# EAGLE library part LCD-16X2 (library 6502_lib)
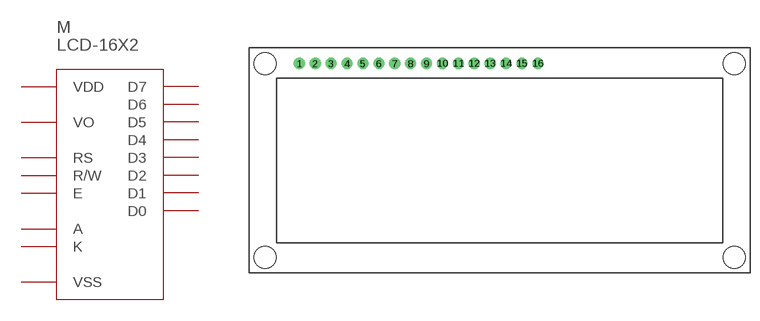
[diagram p4: symbol with the pads of LCD-16X2; footprint LCD-16X2]

Designator prefix M

## LCD-16X2  [LCD-16X2]
1  VSS  pwr
2  VDD  pwr
3  VO
4  RS  in
5  R/W  in
6  E  in
7  D0
8  D1
9  D2
10  D3
11  D4
12  D5
13  D6
14  D7
15  A  pwr
16  K  pwr

## Footprint LCD-16X2 (pad centres in mm)
LCD-16x2 For Standard hitatchi type LCDs with backlight. Has 16 pin connection, silk outiline, and mounting holes. Specifications: Pin count: 16 Pin pitch: 0.1" Area: Datasheet referenced for footprint: Example device(s): Basic 16x2 LCD <https://www.sparkfun.com/products/255>
drill 1.016 pad 1.778: 1 0,0; 2 2.54,0; 3 5.08,0; 4 7.62,0; 5 10.16,0; 6 12.7,0; 7 15.24,0; 8 17.78,0; 9 20.32,0; 10 22.86,0; 11 25.4,0; 12 27.94,0; 13 30.48,0; 14 33.02,0; 15 35.56,0; 16 38.1,0
hole 3.5 at -5.5,0
hole 3.5 at -5.5,-31
hole 3.5 at 69.5,0
hole 3.5 at 69.5,-31